# EAGLE library part 750311659 (library WE-FLYLT)
WE-FLYLT Flyback Transformers for Linear Technology Characteristics Characteristics Low leakage inductance High saturation current for low-power, DC/DC transformers Self-shielding and space efficient Functional insulation Isolation voltage: Up to 1875VAC at 1 second Lead free and RoHS compliant Operating temp: -40°C to 125°C Package sizes: EP7, EP10, EP13 and ETD34 Designed to meet IEC/UL/EN60950-1 Applications Industrial & medical power supplies Isolated auxiliary/housekeeping power supplies Isolated DC/DC supplies Home automation <https://www.we-online.com/catalog/media/o718711v209%20family-WE-UtFLYLT.jpg> Details see: www.we-online.com/catalog/WE-FLYLT <www.we-online.com/catalog/WE-FLYLT/?utm_source=eagle_model&utm_medium=description_link&utm_campaign=eisos_eagle> Created by Ella Wu 2022-11-17 2022 (C) Wurth Elektronik
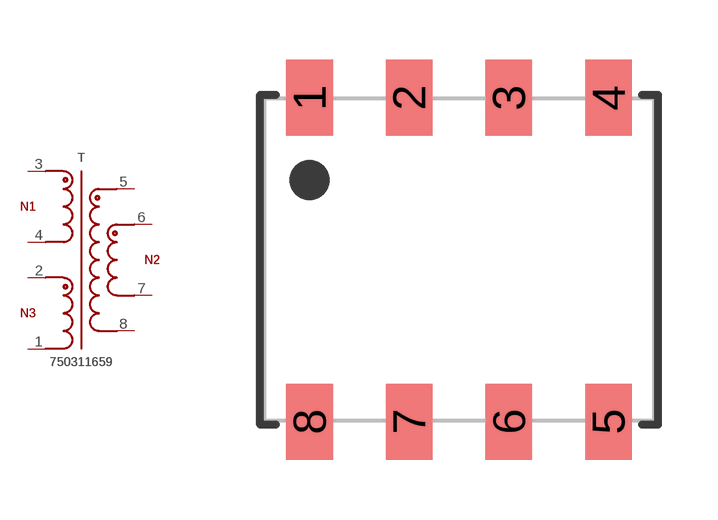
[diagram p18: symbol with the pads of WE-FLYLT_EP7_4436; footprint WE-FLYLT_EP7_4436]

Designator prefix T

## 750311659 (DATASHEET-URL: https://www.we-online.com/redexpert/spec/750311659?ae; IC-REFERENCE: LT8300; IOUT1: 80mA; ISAT: 0.56A; L: 300uH; LS: 3uH; MOUNT: SMT; N: 5:5:1; PART-NUMBER: 750311659; SIZE: EP7; VALUE: 750311659; VAUX: 5V; VIN: 36 - 72 V (DC); VOUT1: 24V; VT: 1500V (AC))  [WE-FLYLT_EP7_4436]
1  1  pas
2  2  pas
3  3  pas
4  4  pas
5  5  pas
6  6  pas
7  7  pas
8  8  pas

## Footprint WE-FLYLT_EP7_4436 (pad centres in mm)
WE-FLYLT Flyback Transformers for Linear Technology Size:EP7,SMT,8pins Bobbin: 070-4436
smd 1.17 x 1.91: 1 -3.75,4.065; 2 -1.25,4.065; 3 1.25,4.065; 4 3.75,4.065; 5 3.75,-4.065; 6 1.25,-4.065; 7 -1.25,-4.065; 8 -3.75,-4.065